# EAGLE library part CP210X (library PiB_ic_bridge)
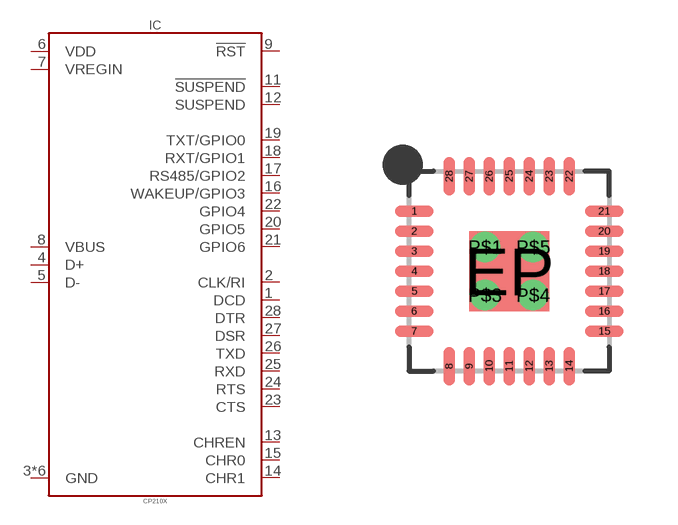
[diagram p0: symbol with the pads of QFN50P500X500X75-28; footprint QFN50P500X500X75-28]

Designator prefix IC

## CP210XCP2102N_QFN-28 (DATASHEET: https://www.silabs.com/documents/public/data-sheets/cp2102n-datasheet.pdf; DIST: Digikey; DISTLINK: https://www.digikey.com/products/en?keywords=336-3694-ND; DISTPN: 336-3694-ND; MFR: Silicon Labs; MPN: CP2102N-A01-GQFN28; VALUE: CP2102N)  [QFN50P500X500X75-28]
1  DCD
2  CLK/RI
3  GND
4  D+
5  D-
6  VDD
7  VREGIN
8  VBUS
9  !RST
11  !SUSPEND
12  SUSPEND
13  CHREN
14  CHR1
15  CHR0
16  WAKEUP/GPIO3
17  RS485/GPIO2
18  RXT/GPIO1
19  TXT/GPIO0
20  GPIO5
21  GPIO6
22  GPIO4
23  CTS
24  RTS
25  RXD
26  TXD
27  DSR
28  DTR
EP  GND
P$1  GND
P$3  GND
P$4  GND
P$5  GND

## Footprint QFN50P500X500X75-28 (pad centres in mm)
28-QFN, 0.50 mm pitch, 5.00 X 5.00 X 0.75 mm body 28-pin QFN package with 0.50 mm pitch with body size 5.00 X 5.00 X 0.75 mm
smd 0.962 x 0.282: 1 -2.375,1.5; 2 -2.375,1; 3 -2.375,0.5; 4 -2.375,0; 5 -2.375,-0.5; 6 -2.375,-1; 7 -2.375,-1.5; 15 2.375,-1.5; 16 2.375,-1; 17 2.375,-0.5; 18 2.375,0; 19 2.375,0.5; 20 2.375,1; 21 2.375,1.5
smd 0.282 x 0.962: 8 -1.5,-2.375; 9 -1,-2.375; 10 -0.5,-2.375; 11 0,-2.375; 12 0.5,-2.375; 13 1,-2.375; 14 1.5,-2.375; 22 1.5,2.375; 23 1,2.375; 24 0.5,2.375; 25 0,2.375; 26 -0.5,2.375; 27 -1,2.375; 28 -1.5,2.375
smd 2 x 2: EP 0,0
drill 0.254 pad 0.381: P$1 -0.6,0.6; P$3 -0.6,-0.6; P$4 0.6,-0.6; P$5 0.6,0.6